# Altium schematic symbol library RB058L-30DDTE25.SchLib: 1 symbol
Pins are listed as number, name and electrical type; pins without a type are passive.

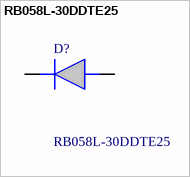
[diagram p0: symbol RB058L-30DDTE25]

## RB058L-30DDTE25
designator D?
Features Inner Circuit High reliability Small power mold type Super low IR; Manufacturer_Name: ROHM Semiconductor; Geometry.Height: 2.2mm; Mouser Part Number: 755-RB058L-30DDTE25; Mouser Price/Stock: https://www.mouser.co.uk/ProductDetail/ROHM-Semiconductor/RB058L-30DDTE25?qs=4v%252BiZTmLVHH4qQzteWzq7g%3D%3D; Manufacturer_Part_Number: RB058L-30DDTE25; Datasheet Link: *
footprint DIOM5026X220N
pins: 1 K, 2 A